# Altium footprint library Parking Sensor in FG Case6.1.PcbLib: 34 footprints (part 2 of 3)
Each footprint in its own frame and in the unit in brackets; x right, y up, seen from the top. Pads: shape width x height; smd on the part's side, far side on the other; paste and mask are expansions set on the pad; w line width, h text height; cw(c..) or ccw(c..) is an arc to the next point about the centre after c.
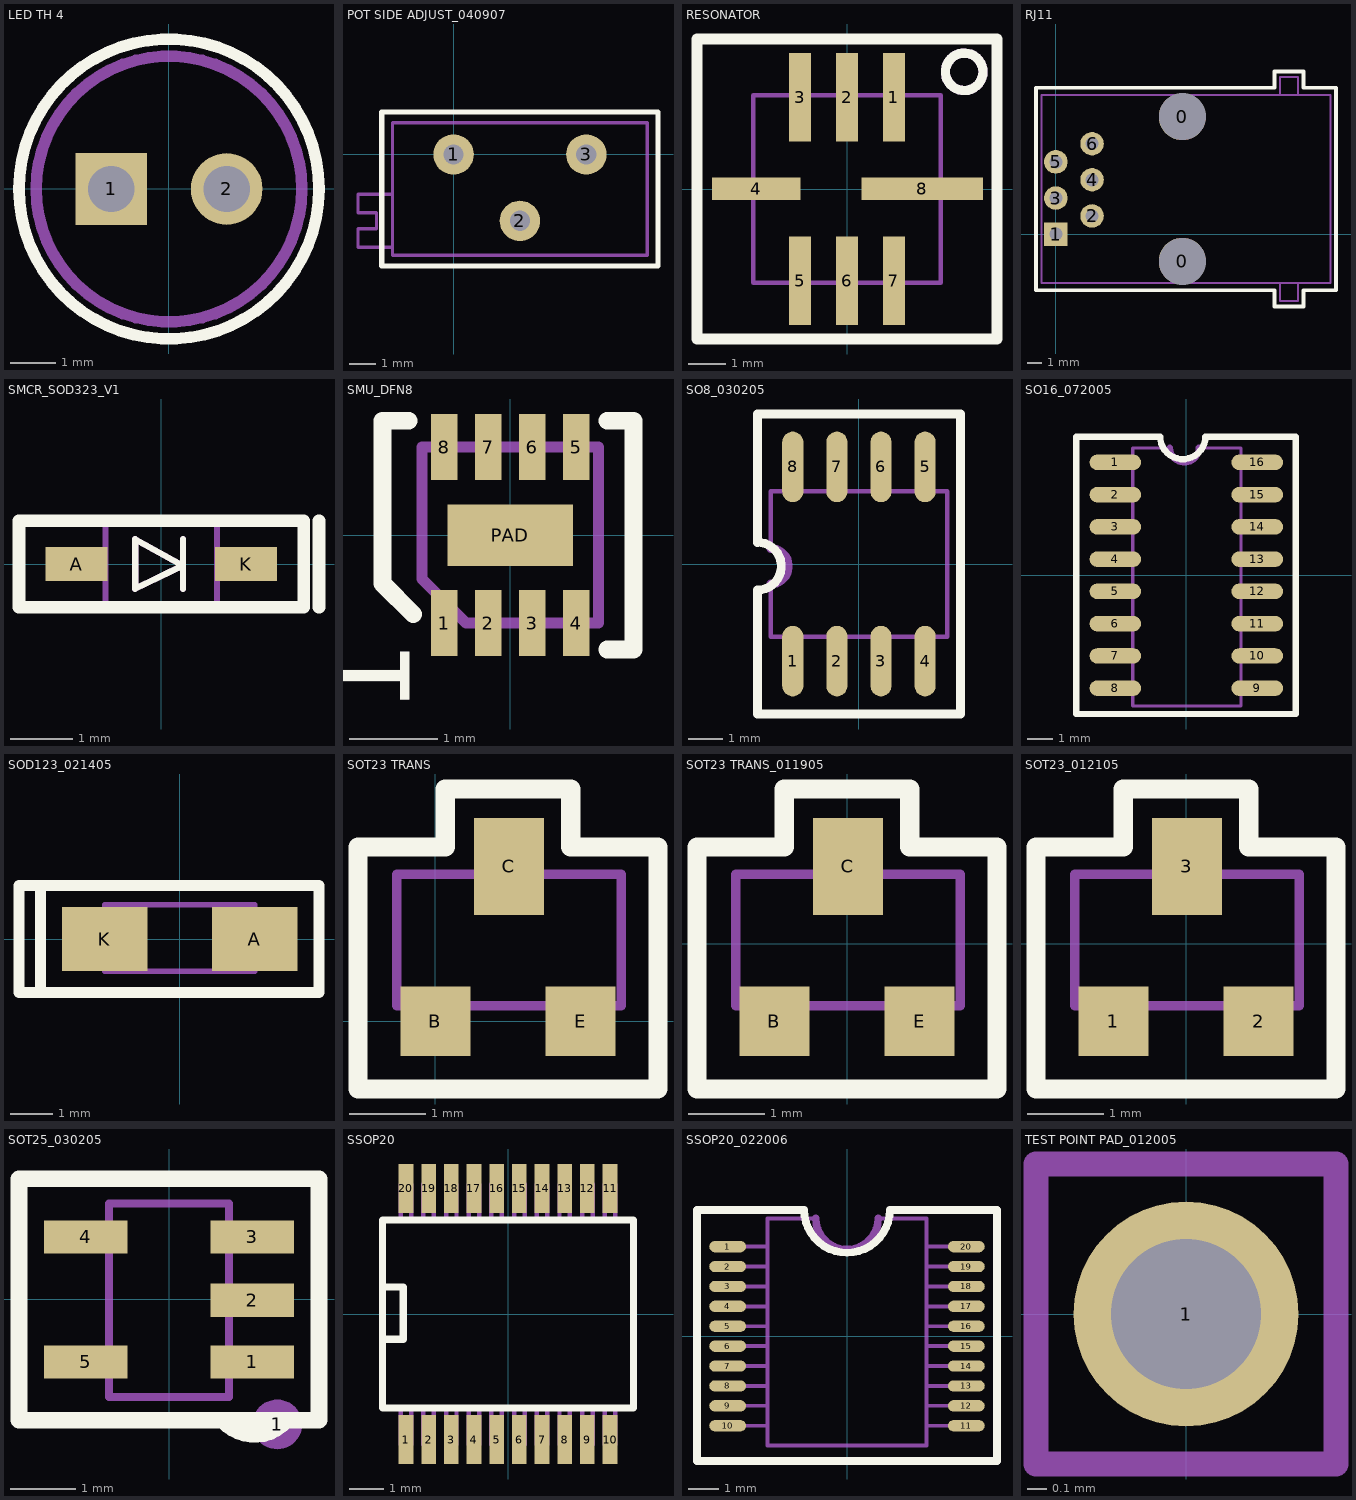
[diagram p1: the footprints below, top view; thin cyan lines are the x and y axes]

## LED TH 4 [mil]
pads (2):
  rect 62x62 hole 40: 1(-50,0)
  round 62 hole 40: 2(50,0)
Top Overlay:
  circle w10: c0,0 r130
Mechanical 1:
  circle w10: c0,0 r115.11
Mechanical 8:
  text ".Designator" at 32.5,-27.5 h39.37

## POT SIDE ADJUST_040907 [mil] "TH"
height 393.7
pads (3):
  round 60 hole 30: 1(0,0) 2(98.43,-98.43) 3(196.85,0)
Top Overlay:
  lines w8: -106.3,-165.35 -106.3,62.99 98.43,62.99 303.15,62.99 303.15,-165.35 98.43,-165.35 -106.3,-165.35
Mechanical 1:
  lines w4.92: -90.55,-137.8 -141.73,-137.8 -141.73,-110.24 -114.17,-110.24 -114.17,-98.43 -114.17,-86.61 -141.73,-86.61 -141.73,-59.06 -90.55,-59.06 ; -90.55,-149.61 287.4,-149.61 287.4,-98.43 287.4,47.24 -90.55,47.24 -90.55,-149.61
Mechanical 8:
  text ".Designator" at 60.92,-60 h39.37

## RESONATOR [mm]
pads (8):
  rect 0.6x2.4 smd: 1(1.27,2.489) 2(0,2.489) 3(-1.27,2.489) 5(-1.27,-2.491) 6(0,-2.491) 7(1.27,-2.491)
  rect 2.4x0.6 smd: 4(-2.462,0.008)
  rect 3.28x0.6 smd: 8(2.038,0.008)
Top Overlay:
  circle w0.254: c3.175,3.175 r0.508
  lines w0.305: -4.064,-4.064 4.064,-4.064 4.064,0 4.064,4.064 -4.064,4.064 -4.064,-4.064
Mechanical 1:
  circle w0.254: c3.175,3.175 r0.508
  lines w0.125: -2.54,-2.54 2.54,-2.54 2.54,0 2.54,2.54 -2.54,2.54 -2.54,-2.54
Mechanical 8:
  text ".Designator" at 0.381,-0.508 h1

## RJ11 [mil]
pads (8):
  round 130 hole 130: 0(350,-75) 0(350,325)
  rect 65x65 hole 36: 1(0,0)
  round 65 hole 36: 2(100,50.39) 3(0,100) 4(100,150.39) 5(0,200) 6(100,250.39)
Top Overlay:
  lines w10: -55,-155 -55,125 -55,405 605,405 605,450 640,450 685,450 685,405 775,405 775,125 775,-155 685,-155 685,-200 640,-200 605,-200 605,-155 -55,-155
Mechanical 1:
  lines w4.92: 0,385 -40,385 ; 620,-135 620,-185 670,-185 670,-135 ; 620,385 620,435 670,435 670,385 760,385 ; -40,385 -40,-135 760,-135 760,385 ; -40,385 760,385
Mechanical 8:
  text ".Designator" at 245.22,77.64 h39.37

## SMCR_SOD323_V1 [mm]
pads (2):
  rect 1x0.55 smd: A(-1.37,0) K(1.37,0)
Top Overlay:
  lines w0.102: -0.425,-0.4 0.35,-0.025 -0.425,0.4 ; -0.422,-0.397 -0.422,0.4 ; 0.35,-0.4 0.35,0.4
  lines w0.203: 2.55,-0.7 2.55,0.7 ; -2.3,-0.7 -2.3,0.7 2.3,0.7 2.3,-0.7 -2.3,-0.7
Mechanical 1:
  lines w0.102: -0.925,-0.2 -1.375,-0.2 -1.375,0.2 -0.925,0.2 ; -0.425,-0.4 0.35,-0.025 -0.425,0.4 ; -0.422,-0.397 -0.422,0.4 ; 0.35,-0.4 0.35,0.4 ; 0.925,-0.2 1.375,-0.2 1.375,0.2 0.925,0.2 ; -0.9,-0.675 0.9,-0.675 0.9,0.675 -0.9,0.675 -0.9,-0.675
  text ".Designator" at -0.762,1.143 h0.95

## SMU_DFN8 [mm]
pads (9):
  rect 0.3x0.75 smd: 1(-0.75,-1) 2(-0.25,-1) 3(0.25,-1) 4(0.75,-1) 5(0.75,1) 6(0.25,1) 7(-0.25,1) 8(-0.75,1)
  rect 1.425x0.7 smd: PAD(0,0)
Top Overlay:
  lines w0.2: -1.15,1.3 -1.45,1.3 -1.45,-0.55 -1.1,-0.9 ; 1.1,-1.3 1.4,-1.3 1.4,1.3 1.1,1.3
  text "1" at -1.143,-2.032 h0.95
Mechanical 1:
  lines w0.125: -1,-0.5 -0.5,-1 1,-1 1,1 -1,1 -1,-0.5
  text "8" at -1.55,1.55 h0.56
  text "5" at 1.15,1.55 h0.56
  text "4" at 1.15,-2.1 h0.56
  text "1" at -1.5,-2 h0.56
Mechanical 8:
  text ".Designator" at 0.508,-0.635 h1

## SO8_030205 [mil] "SMT"
height 70
pads (8):
  oval 24x80 smd: 1(-75,-110) 2(-25,-110) 3(25,-110) 4(75,-110) 5(75,110) 6(25,110) 7(-25,110) 8(-75,110)
Top Overlay:
  lines w10: -115,-170 -115,-29.54 ccw(c-115,-2.5) -115,24.54 -115,170 115,170 115,-170 -115,-170
Mechanical 1:
  lines w4.92: -100,-22.5 -100,-82.5 100,-82.5 100,82.5 -100,82.5 -100,17.5 ; -80,-82.5 -80,-110 -70,-110 -70,-82.5 ; -80,82.5 -80,110 -70,110 -70,82.5 ; -30,-82.5 -30,-110 -20,-110 -20,-82.5 ; -30,82.5 -30,110 -20,110 -20,82.5 ; 20,-82.5 20,-110 30,-110 30,-82.5 ; 20,82.5 20,110 30,110 30,82.5 ; 70,-82.5 70,-110 80,-110 80,-82.5 ; 70,82.5 70,110 80,110 80,82.5
  lines w10: -100,-22.5 ccw(c-100,-2.5) -100,17.5
Mechanical 8:
  text ".Designator" at -25,-15 h39.37

## SO16_072005 [mil] "SM"
height 70
pads (16):
  oval 80x24 smd: 1(-110,175) 2(-110,125) 3(-110,75) 4(-110,25) 5(-110,-25) 6(-110,-75) 7(-110,-125) 8(-110,-175) 9(110,-175) 10(110,-125) 11(110,-75) 12(110,-25) 13(110,25) 14(110,75) 15(110,125) 16(110,175)
Top Overlay:
  lines w10: -170.46,-215 -170.46,215 -40.46,215 ccw(c-5.46,215) 29.54,215 169.54,215 169.54,-215 -170.46,-215
Mechanical 1:
  lines w4.92: -82.96,-180 -110.46,-180 -110.46,-170 -82.96,-170 ; -82.96,-130 -110.46,-130 -110.46,-120 -82.96,-120 ; -82.96,-80 -110.46,-80 -110.46,-70 -82.96,-70 ; -82.96,-30 -110.46,-30 -110.46,-20 -82.96,-20 ; -82.96,20 -110.46,20 -110.46,30 -82.96,30 ; -82.96,70 -110.46,70 -110.46,80 -82.96,80 ; -82.96,120 -110.46,120 -110.46,130 -82.96,130 ; -82.96,170 -110.46,170 -110.46,180 -82.96,180 ; -25.46,197.5 -82.96,197.5 -82.96,180 ; 19.54,197.5 84.54,197.5 84.54,-202.5 -82.96,-202.5 -82.96,180 ; 84.54,-180 112.04,-180 112.04,-170 84.54,-170 ; 84.54,-130 112.04,-130 112.04,-120 84.54,-120 ; 84.54,-80 112.04,-80 112.04,-70 84.54,-70 ; 84.54,-30 112.04,-30 112.04,-20 84.54,-20 ; 84.54,20 112.04,20 112.04,30 84.54,30 ; 84.54,70 112.04,70 112.04,80 84.54,80 ; 84.54,120 112.04,120 112.04,130 84.54,130 ; 84.54,170 112.04,170 112.04,180 84.54,180
  lines w10: -25.46,197.5 ccw(c-2.96,197.5) 19.54,197.5
Mechanical 8:
  text ".Designator" at -30,-30 h39.37

## SOD123_021405 [mil] "SMT"
height 50
pads (2):
  rect 80x60 smd: A(70,0) K(-70,0)
Top Overlay:
  lines w10: -130,-50 -130,50 ; -150,-50 40,-50 130,-50 130,50 40,50 -150,50 -150,-50
Mechanical 1:
  lines w4.92: -40,-30 -40,32 ; -70,-30 70,-30 70,32 -70,32 -70,-30
Mechanical 8:
  text ".Designator" at 55,-40 h39.37

## SOT23 TRANS [mil]
pads (3):
  rect 36x36 smd: B(0,0) E(75,0)
  rect 36x50 smd: C(38,80)
Top Overlay:
  lines w10: -40,-35 115,-35 115,90 70,90 70,120 23,120 5,120 5,90 -40,90 -40,-35
Mechanical 1:
  lines w4.92: -10,8 -10,-8 10,-8 10,8 ; 30,76 30,94 46,94 46,76 ; 66,8 66,-8 84,-8 84,8 ; -20,8 96,8 96,76 -20,76 -20,8
Mechanical 8:
  text ".Designator" at 85,60 h39.37

## SOT23 TRANS_011905 [mil] "SMT"
height 40
pads (3):
  rect 36x36 smd: B(-37.5,-40) E(37.5,-40)
  rect 36x50 smd: C(0.5,40)
Top Overlay:
  lines w10: -77.5,-75 -77.5,50 -32.5,50 -32.5,80 -14.5,80 32.5,80 32.5,50 77.5,50 77.5,-75 -77.5,-75
Mechanical 1:
  lines w4.92: -47.5,-32 -47.5,-48 -27.5,-48 -27.5,-32 ; -7.5,36 -7.5,54 8.5,54 8.5,36 ; 28.5,-32 28.5,-48 46.5,-48 46.5,-32 ; -57.5,-32 -57.5,36 58.5,36 58.5,-32 -57.5,-32
Mechanical 8:
  text ".Designator" at -33.98,-20.67 h39.37

## SOT23_012105 [mil] "SMT"
height 50
pads (3):
  rect 36x36 smd: 1(-37.5,-40) 2(37.5,-40)
  rect 36x50 smd: 3(0.5,40)
Top Overlay:
  lines w10: -77.5,-75 77.5,-75 77.5,50 32.5,50 32.5,80 -14.5,80 -32.5,80 -32.5,50 -77.5,50 -77.5,-75
Mechanical 1:
  lines w4.92: -47.5,-32 -47.5,-48 -27.5,-48 -27.5,-32 ; -7.5,36 -7.5,54 8.5,54 8.5,36 ; 28.5,-32 28.5,-48 46.5,-48 46.5,-32 ; -57.5,-32 58.5,-32 58.5,36 -57.5,36 -57.5,-32
Mechanical 8:
  text ".Designator" at 30,20 h39.37

## SOT25_030205 [mil] "SMT"
height 40
pads (6):
  rect 50x20 smd: 1(50,-37.5) 2(50,-0.5) 3(50,37.5) 4(-50,37.5) 5(-50,-37.5)
  round 30 on Mech1: 1(65,-75)
Top Overlay:
  lines w10: 35,-75 ccw(c51.25,-56.25) 70,-72.5 ; -90,-72.5 90,-72.5 90,37.5 90,72.5 -90,72.5 -90,-72.5
Mechanical 1:
  lines w4.92: -36,-42.5 -58,-42.5 -58,-34.5 -36,-34.5 ; -36,33.5 -58,33.5 -58,41.5 -36,41.5 ; 36,-42.5 58,-42.5 58,-34.5 36,-34.5 ; 36,-4.5 58,-4.5 58,3.5 36,3.5 ; 36,31.5 38,33.5 58,33.5 58,41.5 36,41.5 ; -36,-58.5 36,-58.5 36,57.5 -36,57.5 -36,-58.5
Mechanical 8:
  text ".Designator" at -20,25 h39.37

## SSOP20 [mm]
pads (20):
  rect 0.42x1.4 smd: 1(-2.925,-3.6) 2(-2.275,-3.6) 3(-1.625,-3.6) 4(-0.975,-3.6) 5(-0.325,-3.6) 6(0.325,-3.6) 7(0.975,-3.6) 8(1.625,-3.6) 9(2.275,-3.6) 10(2.925,-3.6) 11(2.925,3.6) 12(2.275,3.6) 13(1.625,3.6) 14(0.975,3.6) 15(0.325,3.6) 16(-0.325,3.6) 17(-0.975,3.6) 18(-1.625,3.6) 19(-2.275,3.6) 20(-2.925,3.6)
Top Overlay:
  lines w0.203: -3.593,-0.725 -3.003,-0.725 -3.003,0.775 -3.593,0.775 ; -3.6,-2.7 3.6,-2.7 3.6,2.7 -3.6,2.7 -3.6,-2.7
Mechanical 1:
  lines w0.125: -3.6,-0.75 -3.01,-0.75 -3.01,0.75 -3.6,0.75 ; -3.075,-2.7 -3.075,-3.74 -2.775,-3.74 -2.775,-2.7 ; -3.075,2.7 -3.075,3.72 -2.775,3.72 -2.775,2.7 ; -2.425,-2.7 -2.425,-3.74 -2.125,-3.74 -2.125,-2.7 ; -2.425,2.7 -2.425,3.72 -2.125,3.72 -2.125,2.7 ; -1.775,-2.7 -1.775,-3.74 -1.475,-3.74 -1.475,-2.7 ; -1.775,2.7 -1.775,3.72 -1.475,3.72 -1.475,2.7 ; -1.125,-2.7 -1.125,-3.74 -0.825,-3.74 -0.825,-2.7 ; -1.125,2.7 -1.125,3.72 -0.825,3.72 -0.825,2.7 ; -0.475,-2.7 -0.475,-3.74 -0.175,-3.74 -0.175,-2.7 ; -0.475,2.7 -0.475,3.72 -0.175,3.72 -0.175,2.7 ; 0.175,-2.7 0.175,-3.74 0.475,-3.74 0.475,-2.7 ; 0.175,2.7 0.175,3.72 0.475,3.72 0.475,2.7 ; 0.825,-2.7 0.825,-3.74 1.125,-3.74 1.125,-2.7 ; 0.825,2.7 0.825,3.72 1.125,3.72 1.125,2.7 ; 1.475,-2.7 1.475,-3.74 1.775,-3.74 1.775,-2.7 ; 1.475,2.7 1.475,3.72 1.775,3.72 1.775,2.7 ; 2.125,-2.7 2.125,-3.74 2.425,-3.74 2.425,-2.7 ; 2.125,2.7 2.125,3.72 2.425,3.72 2.425,2.7 ; 2.775,-2.7 2.775,-3.74 3.075,-3.74 3.075,-2.7 ; 2.775,2.7 2.775,3.72 3.075,3.72 3.075,2.7 ; -3.6,-2.7 -3.6,2.7 3.6,2.7 3.6,-2.7 -3.6,-2.7
Mechanical 8:
  text ".Designator" at 0.635,0.635 h1

## SSOP20_022006 [mm] "SMT"
height 2
pads (20):
  oval 1.2x0.37 smd: 1(-3.9,2.925) 2(-3.9,2.275) 3(-3.9,1.625) 4(-3.9,0.975) 5(-3.9,0.325) 6(-3.9,-0.325) 7(-3.9,-0.975) 8(-3.9,-1.625) 9(-3.9,-2.275) 10(-3.9,-2.925) 11(3.9,-2.925) 12(3.9,-2.275) 13(3.9,-1.625) 14(3.9,-0.975) 15(3.9,-0.325) 16(3.9,0.325) 17(3.9,0.975) 18(3.9,1.625) 19(3.9,2.275) 20(3.9,2.925)
Top Overlay:
  lines w0.254: -4.9,-4.075 -4.9,4.125 -1.4,4.125 ccw(c0,4.125) 1.4,4.125 4.9,4.125 4.9,-4.075 -4.9,-4.075
Mechanical 1:
  lines w0.125: -3.9,-2.925 -2.6,-2.925 ; -3.9,-2.275 -2.6,-2.275 ; -3.9,-1.625 -2.6,-1.625 ; -3.9,-0.975 -2.6,-0.975 ; -3.9,-0.325 -2.6,-0.325 ; -3.9,0.325 -2.6,0.325 ; -3.9,0.975 -2.6,0.975 ; -3.9,1.625 -2.6,1.625 ; -3.9,2.275 -2.6,2.275 ; -3.9,2.925 -2.6,2.925 ; -2.6,-1.305 -2.6,3.845 ; -1.02,3.845 -2.6,3.845 ; 1.02,3.845 2.6,3.845 2.6,-2.275 ; 2.6,-2.925 3.9,-2.925 ; 2.6,-1.625 3.9,-1.625 ; 2.6,-0.975 3.9,-0.975 ; 2.6,-0.325 3.9,-0.325 ; 2.6,0.325 3.9,0.325 ; 2.6,0.975 3.9,0.975 ; 2.6,1.625 3.9,1.625 ; 2.6,2.275 3.9,2.275 ; 2.6,2.925 3.9,2.925 ; 3.9,-2.275 2.6,-2.275 ; -2.6,-2.275 -2.6,3.845 ; -2.6,-2.275 -2.6,-3.575 2.6,-3.575 2.6,-2.275
  lines w0.254: -1.02,3.845 ccw(c0,3.845) 1.02,3.845
Mechanical 8:
  text ".Designator" at -0.635,-0.254 h1

## TEST POINT PAD_012005 [mil] "FEATURE SMT PCB"
pads (1):
  round 45 hole 30: 1(0,0)
Mechanical 1:
  lines w4.92: -30,-30 -30,30 0,30 30,30 30,-30 -30,-30
Mechanical 8:
  text ".Designator" at 40,85 h39.37